# Altium schematic symbol library SCH - CONNECTORS - 24 PIN SINGLE ROW W SHIELD.SCHLIB: 1 symbol
Pins are listed as number, name and electrical type; pins without a type are passive.

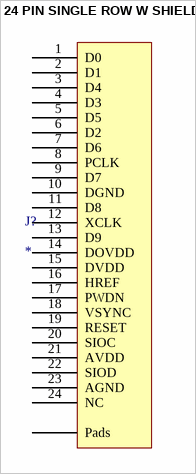
[diagram p0: symbol 24 PIN SINGLE ROW W SHIELD]

## 24 PIN SINGLE ROW W SHIELD
designator J?
footprint GCT FFC2B28-24 (24 Position FFC, FPC Connector Contacts, Top and Bottom 0.020" (0.50mm) Surface Mount, Right Angle)
pins: 1 D0, 2 D1, 3 D4, 4 D3, 5 D5, 6 D2, 7 D6, 8 PCLK, 9 D7, 10 DGND, 11 D8, 12 XCLK, 13 D9, 14 DOVDD, 15 DVDD, 16 HREF, 17 PWDN, 18 VSYNC, 19 RESET, 20 SIOC, 21 AVDD, 22 SIOD, 23 AGND, 24 NC, S Pads